# Altium schematic symbol library Potentiometer_Digital.SchLib: 61 symbols
Pins are listed as number, name and electrical type; pins without a type are passive.

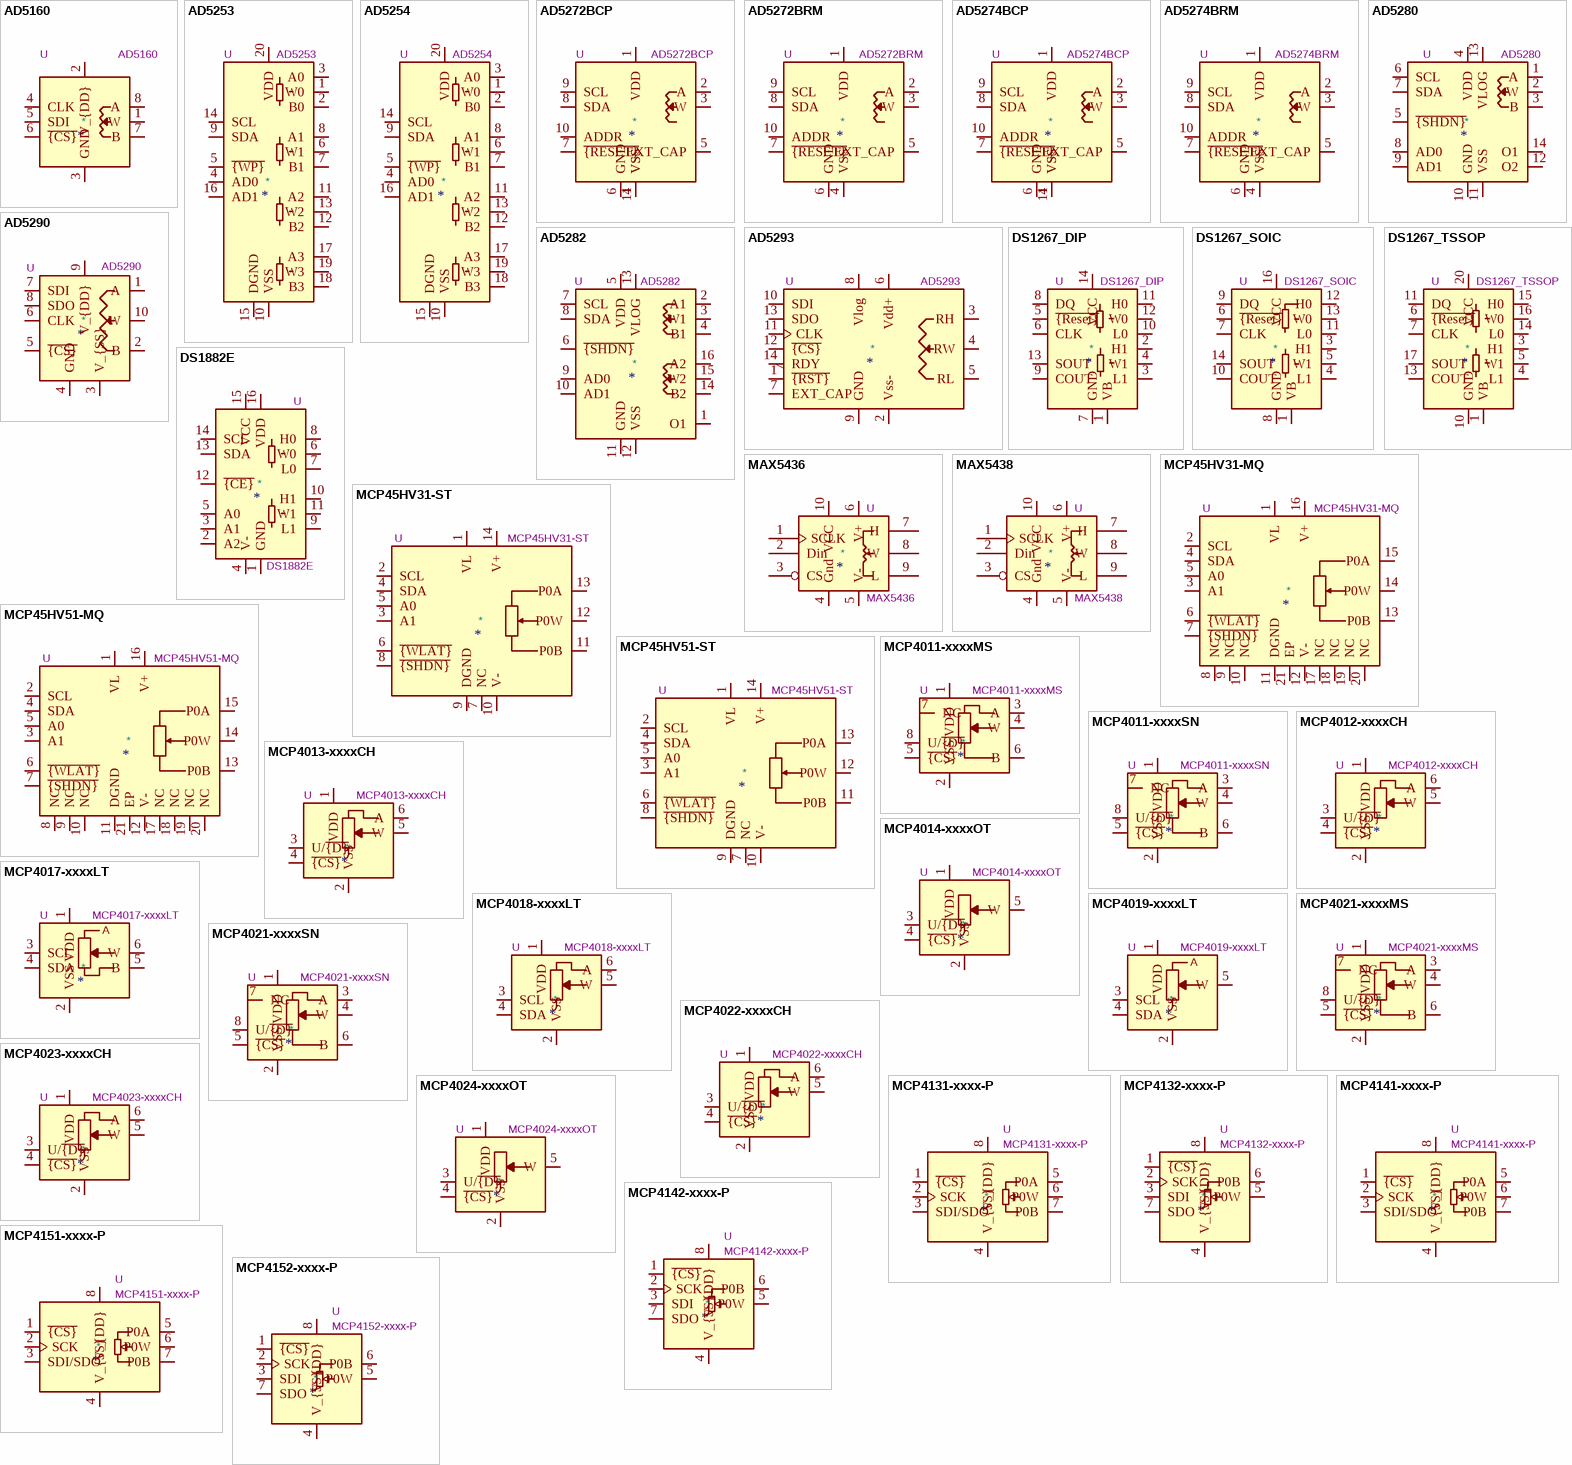
[diagram p0: symbols AD5160 to MCP4152-xxxx-P]

## AD5160
designator *  value AD5160  Reference: U
Digital potentiometer, 256 position, single output, SPI interface, SOT-23-8; ki_fp_filters: SOT?23*; Footprint: Package_TO_SOT_SMD:SOT-23-8; Datasheet: https://www.analog.com/media/en/technical-documentation/data-sheets/AD5160.pdf; Description_: Digital potentiometer, 256 position, single output, SPI interface, SOT-23-8; ki_keywords: digital potentiometer
pins: 1 W, 2 V_{DD}, 3 GND, 4 CLK, 5 SDI, 6 ~{{CS}}, 7 B, 8 A

## AD5253
designator *  value AD5253  Reference: U
Digital potentiometer, 64 position, 4 output, I2C interface, TSSOP-20; ki_fp_filters: TSSOP*4.4x6.5mm*P0.65mm*; Footprint: Package_SO:TSSOP-20_4.4x6.5mm_P0.65mm; Datasheet: https://www.analog.com/media/en/technical-documentation/data-sheets/AD5253_5254.pdf; Description_: Digital potentiometer, 64 position, 4 output, I2C interface, TSSOP-20; ki_keywords: digital potentiometer
pins: 1 W0, 2 B0, 3 A0, 4 AD0, 5 ~{{WP}}, 6 W1, 7 B1, 8 A1, 9 SDA, 10 VSS, 11 A2, 12 B2, 13 W2, 14 SCL, 15 DGND, 16 AD1, 17 A3, 18 B3, 19 W3, 20 VDD

## AD5254
designator *  value AD5254  Reference: U
Digital potentiometer, 256 position, 4 output, I2C interface, TSSOP-20; ki_fp_filters: TSSOP*4.4x6.5mm*P0.65mm*; Footprint: Package_SO:TSSOP-20_4.4x6.5mm_P0.65mm; Datasheet: https://www.analog.com/media/en/technical-documentation/data-sheets/AD5253_5254.pdf; Description_: Digital potentiometer, 256 position, 4 output, I2C interface, TSSOP-20; ki_keywords: digital potentiometer
pins: 1 W0, 2 B0, 3 A0, 4 AD0, 5 ~{{WP}}, 6 W1, 7 B1, 8 A1, 9 SDA, 10 VSS, 11 A2, 12 B2, 13 W2, 14 SCL, 15 DGND, 16 AD1, 17 A3, 18 B3, 19 W3, 20 VDD

## AD5272BCP
designator *  value AD5272BCP  Reference: U
Digital potentiometer, 1024 position, 1% Resistor Tolerance, I2C interface, LFCSP-10; ki_fp_filters: LFCSP*1EP*3x3mm*P0.5mm*; Footprint: Package_CSP:LFCSP-WD-10-1EP_3x3mm_P0.5mm_EP1.64x2.38mm; Datasheet: https://www.analog.com/media/en/technical-documentation/data-sheets/AD5272_5274.pdf; Description_: Digital potentiometer, 1024 position, 1% Resistor Tolerance, I2C interface, LFCSP-10; ki_keywords: digital potentiometer
pins: 1 VDD, 2 A, 3 W, 4 VSS, 5 EXT_CAP, 6 GND, 7 ~{{RESET}}, 8 SDA, 9 SCL, 10 ADDR, 11 VSS

## AD5272BRM
designator *  value AD5272BRM  Reference: U
Digital potentiometer, 1024 position, 1% Resistor Tolerance, I2C interface, MSOP-10; ki_fp_filters: MSOP*3x3mm*P0.5mm*; Footprint: Package_SO:MSOP-10_3x3mm_P0.5mm; Datasheet: https://www.analog.com/media/en/technical-documentation/data-sheets/AD5272_5274.pdf; Description_: Digital potentiometer, 1024 position, 1% Resistor Tolerance, I2C interface, MSOP-10; ki_keywords: digital potentiometer
pins: 1 VDD, 2 A, 3 W, 4 VSS, 5 EXT_CAP, 6 GND, 7 ~{{RESET}}, 8 SDA, 9 SCL, 10 ADDR

## AD5274BCP
designator *  value AD5274BCP  Reference: U
Digital potentiometer, 256 position, 1% Resistor Tolerance, I2C interface, LFCSP-10; ki_fp_filters: LFCSP*1EP*3x3mm*P0.5mm*; Footprint: Package_CSP:LFCSP-WD-10-1EP_3x3mm_P0.5mm_EP1.64x2.38mm; Datasheet: https://www.analog.com/media/en/technical-documentation/data-sheets/AD5272_5274.pdf; Description_: Digital potentiometer, 256 position, 1% Resistor Tolerance, I2C interface, LFCSP-10; ki_keywords: digital potentiometer
pins: 1 VDD, 2 A, 3 W, 4 VSS, 5 EXT_CAP, 6 GND, 7 ~{{RESET}}, 8 SDA, 9 SCL, 10 ADDR, 11 VSS

## AD5274BRM
designator *  value AD5274BRM  Reference: U
Digital potentiometer, 256 position, 1% Resistor Tolerance, I2C interface, MSOP-10; ki_fp_filters: MSOP*3x3mm*P0.5mm*; Footprint: Package_SO:MSOP-10_3x3mm_P0.5mm; Datasheet: https://www.analog.com/media/en/technical-documentation/data-sheets/AD5272_5274.pdf; Description_: Digital potentiometer, 256 position, 1% Resistor Tolerance, I2C interface, MSOP-10; ki_keywords: digital potentiometer
pins: 1 VDD, 2 A, 3 W, 4 VSS, 5 EXT_CAP, 6 GND, 7 ~{{RESET}}, 8 SDA, 9 SCL, 10 ADDR

## AD5280
designator *  value AD5280  Reference: U
Digital potentiometer, 256 position, single output, I2C interface; ki_fp_filters: TSSOP*4.4x5mm*P0.65mm*; Footprint: Package_SO:TSSOP-14_4.4x5mm_P0.65mm; Datasheet: https://www.analog.com/media/en/technical-documentation/data-sheets/AD5280_5282.pdf; Description_: Digital potentiometer, 256 position, single output, I2C interface; ki_keywords: digital potentiometer
pins: 1 A, 2 W, 3 B, 4 VDD, 5 ~{{SHDN}}, 6 SCL, 7 SDA, 8 AD0, 9 AD1, 10 GND, 11 VSS, 12 O2, 13 VLOG, 14 O1

## AD5282
designator *  value AD5282  Reference: U
Digital potentiometer, 256 position, dual output, I2C interface; ki_fp_filters: TSSOP*4.4x5mm*P0.65mm*; Footprint: Package_SO:TSSOP-16_4.4x5mm_P0.65mm; Datasheet: https://www.analog.com/media/en/technical-documentation/data-sheets/AD5280_5282.pdf; Description_: Digital potentiometer, 256 position, dual output, I2C interface; ki_keywords: digital potentiometer
pins: 1 O1, 2 A1, 3 W1, 4 B1, 5 VDD, 6 ~{{SHDN}}, 7 SCL, 8 SDA, 9 AD0, 10 AD1, 11 GND, 12 VSS, 13 VLOG, 14 B2, 15 W2, 16 A2

## AD5290
designator *  value AD5290  Reference: U
Digital Potentiometer, 256 steps, SPI interface, +30V/±15V supply, MSOP-10; ki_keywords: analog-devices; ki_fp_filters: MSOP*3x3mm*P0.5mm*; Footprint: Package_SO:MSOP-10_3x3mm_P0.5mm; Datasheet: https://www.analog.com/media/en/technical-documentation/data-sheets/AD5290.pdf; Description_: Digital Potentiometer, 256 steps, SPI interface, +30V/±15V supply, MSOP-10
pins: 1 A, 2 B, 3 V_{SS}, 4 GND, 5 ~{{CS}}, 6 CLK, 7 SDI, 8 SDO, 9 V_{DD}, 10 W

## AD5293
designator *  value AD5293  Reference: U
Digital potentiometer 1024 pos (SPI), TSSOP-14; ki_keywords: R POT; ki_fp_filters: TSSOP*4.4x5mm*P0.65mm*; Footprint: Package_SO:TSSOP-14_4.4x5mm_P0.65mm; Datasheet: https://www.analog.com/media/en/technical-documentation/data-sheets/AD5293.pdf; Description_: Digital potentiometer 1024 pos (SPI), TSSOP-14
pins: 1 ~{{RST}}, 2 Vss-, 3 RH, 4 RW, 5 RL, 6 Vdd+, 7 EXT_CAP, 8 Vlog, 9 GND, 10 SDI, 11 CLK, 12 ~{{CS}}, 13 SDO, 14 RDY

## DS1267_DIP
designator *  value DS1267_DIP  Reference: U
Dual Digital Potentiometer, Serial, 256 Steps, DIP-14; ki_keywords: Dual Digital Potentiometer Maxim; ki_fp_filters: DIP*W7.62mm*; Footprint: Package_DIP:DIP-14_W7.62mm; Datasheet: https://datasheets.maximintegrated.com/en/ds/DS1267.pdf; Description_: Dual Digital Potentiometer, Serial, 256 Steps, DIP-14
pins: 1 VB, 2 H1, 3 L1, 4 W1, 5 ~{{Reset}}, 6 CLK, 7 GND, 8 DQ, 9 COUT, 10 L0, 11 H0, 12 W0, 13 SOUT, 14 VCC

## DS1267_SOIC
designator *  value DS1267_SOIC  Reference: U
Dual Digital Potentiometer, Serial, 256 Steps, SOIC-16; ki_keywords: Dual Digital Potentiometer Maxim; ki_fp_filters: SOIC*3.9x9.9mm*1.27mm*; Footprint: Package_SO:SOIC-16_3.9x9.9mm_P1.27mm; Datasheet: https://datasheets.maximintegrated.com/en/ds/DS1267.pdf; Description_: Dual Digital Potentiometer, Serial, 256 Steps, SOIC-16
pins: 1 VB, 3 H1, 4 L1, 5 W1, 6 ~{{Reset}}, 7 CLK, 8 GND, 9 DQ, 10 COUT, 11 L0, 12 H0, 13 W0, 14 SOUT, 16 VCC

## DS1267_TSSOP
designator *  value DS1267_TSSOP  Reference: U
Dual Digital Potentiometer, Serial, 256 Steps, TSSOP-20; ki_keywords: Dual Digital Potentiometer Maxim; ki_fp_filters: TSSOP*4.4x6.5mm*0.65mm*; Footprint: Package_SO:TSSOP-20_4.4x6.5mm_P0.65mm; Datasheet: https://datasheets.maximintegrated.com/en/ds/DS1267.pdf; Description_: Dual Digital Potentiometer, Serial, 256 Steps, TSSOP-20
pins: 1 VB, 3 H1, 4 L1, 5 W1, 6 ~{{Reset}}, 7 CLK, 10 GND, 11 DQ, 13 COUT, 14 L0, 15 H0, 16 W0, 17 SOUT, 20 VCC

## DS1882E
designator *  value DS1882E  Reference: U
Dual Log Audio Digital Potentiometer, 64 positions, TSSOP-16; ki_fp_filters: TSSOP*4.4x5mm*P0.65mm*; Footprint: Package_SO:TSSOP-16_4.4x5mm_P0.65mm; Datasheet: https://datasheets.maximintegrated.com/en/ds/DS1882.pdf; Description_: Dual Log Audio Digital Potentiometer, 64 positions, TSSOP-16; ki_keywords: digital potentiometer
pins: 1 GND, 2 A2, 3 A1, 4 V-, 5 A0, 6 W0, 7 L0, 8 H0, 9 L1, 10 H1, 11 W1, 12 ~{{CE}}, 13 SDA, 14 SCL, 15 VCC, 16 VDD

## MAX5436
designator *  value MAX5436  Reference: U
Low-Drift Digital Potentiometer; ki_keywords: digital potentiometer resistor variable; Datasheet: https://datasheets.maximintegrated.com/en/ds/MAX5436-MAX5439.pdf; Description_: Low-Drift Digital Potentiometer
pins: 1 SCLK, 2 Din, 3 CS, 4 Gnd, 5 V-, 6 V+, 7 H, 8 W, 9 L, 10 VCC

## MAX5438
designator *  value MAX5438  Reference: U
Low-Drift Digital Potentiometer; ki_keywords: digital potentiometer resistor variable; Datasheet: https://datasheets.maximintegrated.com/en/ds/MAX5436-MAX5439.pdf; Description_: Low-Drift Digital Potentiometer
pins: 1 SCLK, 2 Din, 3 CS, 4 Gnd, 5 V-, 6 V+, 7 H, 8 W, 9 L, 10 VCC

## MCP45HV31-MQ
designator *  value MCP45HV31-MQ  Reference: U
7/8-bit single +36V (±18V) digital pot, I2C serial interface, volatile memory, QFN-20; ki_keywords: I2C Potentiometer pot digital; ki_fp_filters: QFN*5x5mm*P0.65mm*; Footprint: Package_DFN_QFN:QFN-20-1EP_5x5mm_P0.65mm_EP3.35x3.35mm; Datasheet: http://ww1.microchip.com/downloads/en/DeviceDoc/20005304A.pdf; Description_: 7/8-bit single +36V (±18V) digital pot, I2C serial interface, volatile memory, QFN-20
pins: 1 VL, 2 SCL, 3 A1, 4 SDA, 5 A0, 6 ~{{WLAT}}, 7 ~{{SHDN}}, 8 NC, 9 NC, 10 NC, 11 DGND, 12 V-, 13 P0B, 14 P0W, 15 P0A, 16 V+, 17 NC, 18 NC, 19 NC, 20 NC, 21 EP

## MCP45HV31-ST
designator *  value MCP45HV31-ST  Reference: U
7/8-bit single +36V (±18V) digital pot, I2C serial interface, volatile memory, TSSOP-14; ki_keywords: I2C Potentiometer pot digital; ki_fp_filters: TSSOP*4.4x5mm*P0.65mm*; Footprint: Package_SO:TSSOP-14_4.4x5mm_P0.65mm; Datasheet: http://ww1.microchip.com/downloads/en/DeviceDoc/20005304A.pdf; Description_: 7/8-bit single +36V (±18V) digital pot, I2C serial interface, volatile memory, TSSOP-14
pins: 1 VL, 2 SCL, 3 A1, 4 SDA, 5 A0, 6 ~{{WLAT}}, 7 NC, 8 ~{{SHDN}}, 9 DGND, 10 V-, 11 P0B, 12 P0W, 13 P0A, 14 V+

## MCP45HV51-MQ
designator *  value MCP45HV51-MQ  Reference: U
7/8-bit single +36V (±18V) digital pot, I2C serial interface, volatile memory, QFN-20; ki_keywords: I2C Potentiometer pot digital; ki_fp_filters: QFN*5x5mm*P0.65mm*; Footprint: Package_DFN_QFN:QFN-20-1EP_5x5mm_P0.65mm_EP3.35x3.35mm; Datasheet: http://ww1.microchip.com/downloads/en/DeviceDoc/20005304A.pdf; Description_: 7/8-bit single +36V (±18V) digital pot, I2C serial interface, volatile memory, QFN-20
pins: 1 VL, 2 SCL, 3 A1, 4 SDA, 5 A0, 6 ~{{WLAT}}, 7 ~{{SHDN}}, 8 NC, 9 NC, 10 NC, 11 DGND, 12 V-, 13 P0B, 14 P0W, 15 P0A, 16 V+, 17 NC, 18 NC, 19 NC, 20 NC, 21 EP

## MCP45HV51-ST
designator *  value MCP45HV51-ST  Reference: U
7/8-bit single +36V (±18V) digital pot, I2C serial interface, volatile memory, TSSOP-14; ki_keywords: I2C Potentiometer pot digital; ki_fp_filters: TSSOP*4.4x5mm*P0.65mm*; Footprint: Package_SO:TSSOP-14_4.4x5mm_P0.65mm; Datasheet: http://ww1.microchip.com/downloads/en/DeviceDoc/20005304A.pdf; Description_: 7/8-bit single +36V (±18V) digital pot, I2C serial interface, volatile memory, TSSOP-14
pins: 1 VL, 2 SCL, 3 A1, 4 SDA, 5 A0, 6 ~{{WLAT}}, 7 NC, 8 ~{{SHDN}}, 9 DGND, 10 V-, 11 P0B, 12 P0W, 13 P0A, 14 V+

## MCP4011-xxxxMS
designator *  value MCP4011-xxxxMS  Reference: U
Low-Cost 64-Step Volatile Digital Potentiometer; ki_keywords: Digital Pot Potentiometer Up Down; ki_fp_filters: MSOP*3x3mm*P0.65mm*; Footprint: Package_SO:MSOP-8_3x3mm_P0.65mm; Datasheet: http://ww1.microchip.com/downloads/en/DeviceDoc/21978c.pdf, MSOP-8; Description_: Low-Cost 64-Step Volatile Digital Potentiometer
pins: 1 VDD, 2 VSS, 3 A, 4 W, 5 ~{{CS}}, 6 B, 7 NC, 8 U/~{{D}}

## MCP4011-xxxxSN
designator *  value MCP4011-xxxxSN  Reference: U
Low-Cost 64-Step Volatile Digital Potentiometer; ki_keywords: Digital Pot Potentiometer Up Down; ki_fp_filters: SOIC*3.9x4.9mm*P1.27mm*; Footprint: Package_SO:SOIC-8_3.9x4.9mm_P1.27mm; Datasheet: http://ww1.microchip.com/downloads/en/DeviceDoc/21978c.pdf, SOIC-8; Description_: Low-Cost 64-Step Volatile Digital Potentiometer
pins: 1 VDD, 2 VSS, 3 A, 4 W, 5 ~{{CS}}, 6 B, 7 NC, 8 U/~{{D}}

## MCP4012-xxxxCH
designator *  value MCP4012-xxxxCH  Reference: U
Low-Cost 64-Step Volatile Digital Potentiometer; ki_keywords: Digital Pot Potentiometer Up Down; ki_fp_filters: SOT?23*; Footprint: Package_TO_SOT_SMD:SOT-23-6; Datasheet: http://ww1.microchip.com/downloads/en/DeviceDoc/21978c.pdf, SOT-23-6; Description_: Low-Cost 64-Step Volatile Digital Potentiometer
pins: 1 VDD, 2 VSS, 3 U/~{{D}}, 4 ~{{CS}}, 5 W, 6 A

## MCP4013-xxxxCH
designator *  value MCP4013-xxxxCH  Reference: U
Low-Cost 64-Step Volatile Digital Potentiometer; ki_keywords: Digital Pot Potentiometer Up Down; ki_fp_filters: SOT?23*; Footprint: Package_TO_SOT_SMD:SOT-23-6; Datasheet: http://ww1.microchip.com/downloads/en/DeviceDoc/21978c.pdf, SOT-23-6; Description_: Low-Cost 64-Step Volatile Digital Potentiometer
pins: 1 VDD, 2 VSS, 3 U/~{{D}}, 4 ~{{CS}}, 5 W, 6 A

## MCP4014-xxxxOT
designator *  value MCP4014-xxxxOT  Reference: U
Low-Cost 64-Step Volatile Digital Potentiometer; ki_keywords: Digital Pot Potentiometer Up Down; ki_fp_filters: SOT?23*; Footprint: Package_TO_SOT_SMD:SOT-23-5; Datasheet: http://ww1.microchip.com/downloads/en/DeviceDoc/21978c.pdf, SOT-23-5; Description_: Low-Cost 64-Step Volatile Digital Potentiometer
pins: 1 VDD, 2 VSS, 3 U/~{{D}}, 4 ~{{CS}}, 5 W

## MCP4017-xxxxLT
designator *  value MCP4017-xxxxLT  Reference: U
Low-Cost 128-Step Volatile I2C Digital Potentiometer, SC-70-6; ki_keywords: TWI pot rheostat; ki_fp_filters: *SC?70*; Footprint: Package_TO_SOT_SMD:SOT-363_SC-70-6; Datasheet: http://ww1.microchip.com/downloads/en/DeviceDoc/22147a.pdf; Description_: Low-Cost 128-Step Volatile I2C Digital Potentiometer, SC-70-6
pins: 1 VDD, 2 VSS, 3 SCL, 4 SDA, 5 B, 6 W
text: A

## MCP4018-xxxxLT
designator *  value MCP4018-xxxxLT  Reference: U
Low-Cost 128-Step Volatile I2C Digital Potentiometer, SC-70-6; ki_keywords: TWI pot; ki_fp_filters: *SC?70*; Footprint: Package_TO_SOT_SMD:SOT-363_SC-70-6; Datasheet: http://ww1.microchip.com/downloads/en/DeviceDoc/22147a.pdf; Description_: Low-Cost 128-Step Volatile I2C Digital Potentiometer, SC-70-6
pins: 1 VDD, 2 VSS, 3 SCL, 4 SDA, 5 W, 6 A

## MCP4019-xxxxLT
designator *  value MCP4019-xxxxLT  Reference: U
Low-Cost 128-Step Volatile I2C Digital Potentiometer, SC-70-5; ki_keywords: TWI pot rheostat; ki_fp_filters: *SC?70*; Footprint: Package_TO_SOT_SMD:SOT-353_SC-70-5; Datasheet: http://ww1.microchip.com/downloads/en/DeviceDoc/22147a.pdf; Description_: Low-Cost 128-Step Volatile I2C Digital Potentiometer, SC-70-5
pins: 1 VDD, 2 VSS, 3 SCL, 4 SDA, 5 W
text: A

## MCP4021-xxxxMS
designator *  value MCP4021-xxxxMS  Reference: U
Low-Cost 64-Step Digital Potentiometer with WiperLock™ Technology, MSOP-8; ki_keywords: Digital Pot Potentiometer Up Down; ki_fp_filters: MSOP*3x3mm*P0.65mm*; Footprint: Package_SO:MSOP-8_3x3mm_P0.65mm; Datasheet: http://ww1.microchip.com/downloads/en/DeviceDoc/21945e.pdf; Description_: Low-Cost 64-Step Digital Potentiometer with WiperLock™ Technology, MSOP-8
pins: 1 VDD, 2 VSS, 3 A, 4 W, 5 ~{{CS}}, 6 B, 7 NC, 8 U/~{{D}}

## MCP4021-xxxxSN
designator *  value MCP4021-xxxxSN  Reference: U
Low-Cost 64-Step Digital Potentiometer with WiperLock™ Technology, SOIC-8; ki_keywords: Digital Pot Potentiometer Up Down; ki_fp_filters: SOIC*3.9x4.9mm*P1.27mm*; Footprint: Package_SO:SOIC-8_3.9x4.9mm_P1.27mm; Datasheet: http://ww1.microchip.com/downloads/en/DeviceDoc/21945e.pdf; Description_: Low-Cost 64-Step Digital Potentiometer with WiperLock™ Technology, SOIC-8
pins: 1 VDD, 2 VSS, 3 A, 4 W, 5 ~{{CS}}, 6 B, 7 NC, 8 U/~{{D}}

## MCP4022-xxxxCH
designator *  value MCP4022-xxxxCH  Reference: U
Low-Cost 64-Step Digital Potentiometer with WiperLock™ Technology, SOT-23-6; ki_keywords: Digital Pot Potentiometer Up Down; ki_fp_filters: SOT?23*; Footprint: Package_TO_SOT_SMD:SOT-23-6; Datasheet: http://ww1.microchip.com/downloads/en/DeviceDoc/21945e.pdf; Description_: Low-Cost 64-Step Digital Potentiometer with WiperLock™ Technology, SOT-23-6
pins: 1 VDD, 2 VSS, 3 U/~{{D}}, 4 ~{{CS}}, 5 W, 6 A

## MCP4023-xxxxCH
designator *  value MCP4023-xxxxCH  Reference: U
Low-Cost 64-Step Digital Potentiometer with WiperLock™ Technology, SOT-23-6; ki_keywords: Digital Pot Potentiometer Up Down; ki_fp_filters: SOT?23*; Footprint: Package_TO_SOT_SMD:SOT-23-6; Datasheet: http://ww1.microchip.com/downloads/en/DeviceDoc/21945e.pdf; Description_: Low-Cost 64-Step Digital Potentiometer with WiperLock™ Technology, SOT-23-6
pins: 1 VDD, 2 VSS, 3 U/~{{D}}, 4 ~{{CS}}, 5 W, 6 A

## MCP4024-xxxxOT
designator *  value MCP4024-xxxxOT  Reference: U
Low-Cost 64-Step Digital Potentiometer with WiperLock™ Technology, SOT-23-5; ki_keywords: Digital Pot Potentiometer Up Down; ki_fp_filters: SOT?23*; Footprint: Package_TO_SOT_SMD:SOT-23-5; Datasheet: http://ww1.microchip.com/downloads/en/DeviceDoc/21945e.pdf; Description_: Low-Cost 64-Step Digital Potentiometer with WiperLock™ Technology, SOT-23-5
pins: 1 VDD, 2 VSS, 3 U/~{{D}}, 4 ~{{CS}}, 5 W

## MCP4131-xxxx-P
designator *  value MCP4131-xxxx-P  Reference: U
Single Digital Potentiometer, SPI interface, 129 taps, 5/10/50/100 kohm, volatile memory; ki_keywords: digipot RAM 7-bit 7bit; ki_fp_filters: DIP?8*W7.62mm*; Footprint: Package_DIP:DIP-8_W7.62mm; Datasheet: https://ww1.microchip.com/downloads/aemDocuments/documents/OTH/ProductDocuments/DataSheets/22060b.pdf; Description_: Single Digital Potentiometer, SPI interface, 129 taps, 5/10/50/100 kohm, volatile memory
pins: 1 ~{{CS}}, 2 SCK, 3 SDI/SDO, 4 V_{SS}, 5 P0A, 6 P0W, 7 P0B, 8 V_{DD}

## MCP4132-xxxx-P
designator *  value MCP4132-xxxx-P  Reference: U
Single Digital Rheostat, SPI interface, 129 taps, 5/10/50/100 kohm, volatile memory; ki_keywords: potentiometer digipot RAM 7-bit 7bit; ki_fp_filters: DIP?8*W7.62mm*; Footprint: Package_DIP:DIP-8_W7.62mm; Datasheet: https://ww1.microchip.com/downloads/aemDocuments/documents/OTH/ProductDocuments/DataSheets/22060b.pdf; Description_: Single Digital Rheostat, SPI interface, 129 taps, 5/10/50/100 kohm, volatile memory
pins: 1 ~{{CS}}, 2 SCK, 3 SDI, 4 V_{SS}, 5 P0W, 6 P0B, 7 SDO, 8 V_{DD}

## MCP4141-xxxx-P
designator *  value MCP4141-xxxx-P  Reference: U
Single Digital Potentiometer, SPI interface, 129 taps, 5/10/50/100 kohm, non-volatile memory; ki_keywords: digipot EE 7-bit 7bit; ki_fp_filters: DIP?8*W7.62mm*; Footprint: Package_DIP:DIP-8_W7.62mm; Datasheet: https://ww1.microchip.com/downloads/aemDocuments/documents/OTH/ProductDocuments/DataSheets/22059b.pdf; Description_: Single Digital Potentiometer, SPI interface, 129 taps, 5/10/50/100 kohm, non-volatile memory
pins: 1 ~{{CS}}, 2 SCK, 3 SDI/SDO, 4 V_{SS}, 5 P0A, 6 P0W, 7 P0B, 8 V_{DD}

## MCP4142-xxxx-P
designator *  value MCP4142-xxxx-P  Reference: U
Single Digital Rheostat, SPI interface, 129 taps, 5/10/50/100 kohm, non-volatile memory; ki_keywords: potentiometer digipot EE 7-bit 7bit; ki_fp_filters: DIP?8*W7.62mm*; Footprint: Package_DIP:DIP-8_W7.62mm; Datasheet: https://ww1.microchip.com/downloads/aemDocuments/documents/OTH/ProductDocuments/DataSheets/22059b.pdf; Description_: Single Digital Rheostat, SPI interface, 129 taps, 5/10/50/100 kohm, non-volatile memory
pins: 1 ~{{CS}}, 2 SCK, 3 SDI, 4 V_{SS}, 5 P0W, 6 P0B, 7 SDO, 8 V_{DD}

## MCP4151-xxxx-P
designator *  value MCP4151-xxxx-P  Reference: U
Single Digital Potentiometer, SPI interface, 257 taps, 5/10/50/100 kohm, volatile memory; ki_keywords: digipot RAM 8-bit 8bit; ki_fp_filters: DIP?8*W7.62mm*; Footprint: Package_DIP:DIP-8_W7.62mm; Datasheet: https://ww1.microchip.com/downloads/aemDocuments/documents/OTH/ProductDocuments/DataSheets/22060b.pdf; Description_: Single Digital Potentiometer, SPI interface, 257 taps, 5/10/50/100 kohm, volatile memory
pins: 1 ~{{CS}}, 2 SCK, 3 SDI/SDO, 4 V_{SS}, 5 P0A, 6 P0W, 7 P0B, 8 V_{DD}

## MCP4152-xxxx-P
designator *  value MCP4152-xxxx-P  Reference: U
Single Digital Rheostat, SPI interface, 257 taps, 5/10/50/100 kohm, volatile memory; ki_keywords: potentiometer digipot RAM 8-bit 8bit; ki_fp_filters: DIP?8*W7.62mm*; Footprint: Package_DIP:DIP-8_W7.62mm; Datasheet: https://ww1.microchip.com/downloads/aemDocuments/documents/OTH/ProductDocuments/DataSheets/22060b.pdf; Description_: Single Digital Rheostat, SPI interface, 257 taps, 5/10/50/100 kohm, volatile memory
pins: 1 ~{{CS}}, 2 SCK, 3 SDI, 4 V_{SS}, 5 P0W, 6 P0B, 7 SDO, 8 V_{DD}

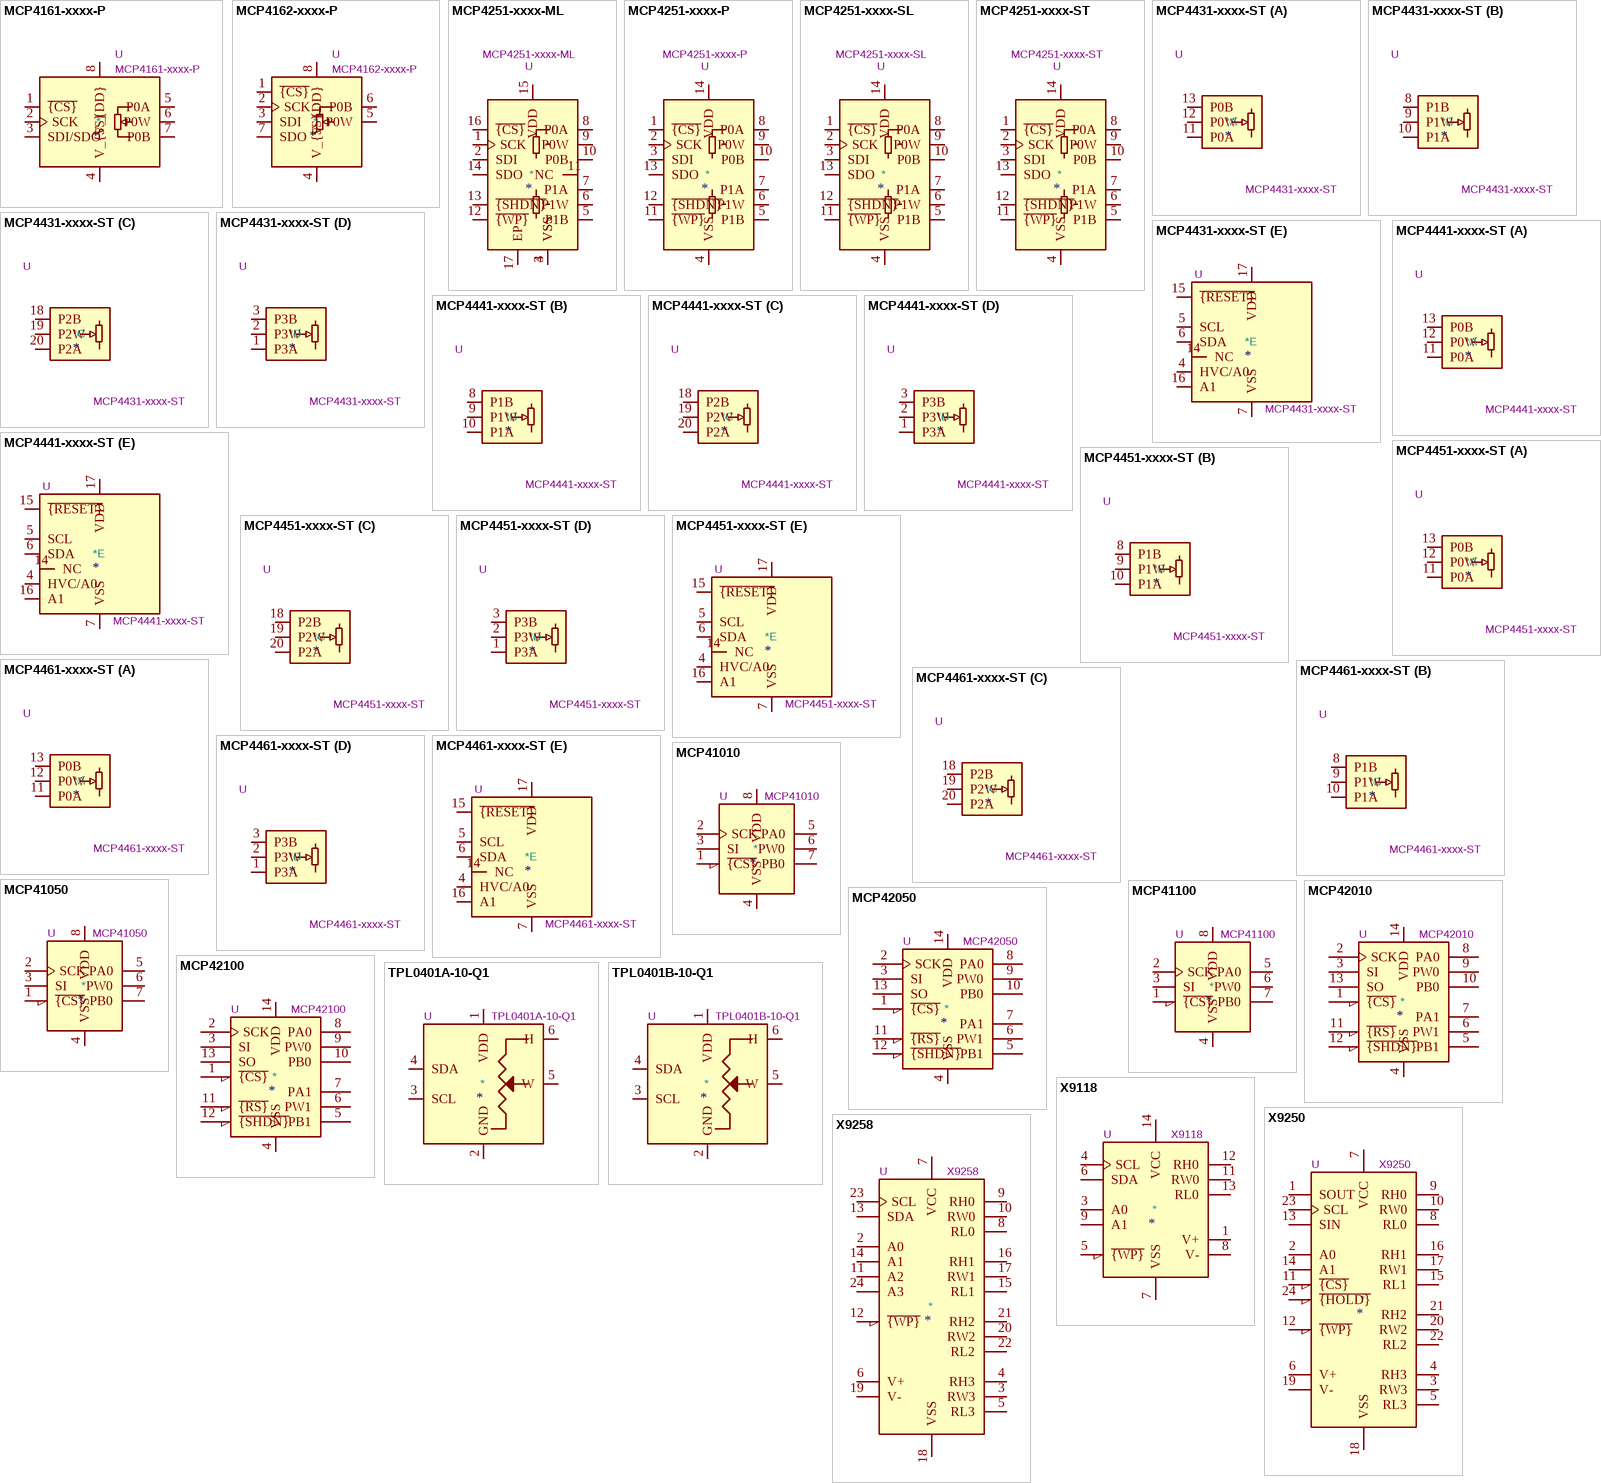
[diagram p1: symbols MCP4161-xxxx-P to X9258]

## MCP4161-xxxx-P
designator *  value MCP4161-xxxx-P  Reference: U
Single Digital Potentiometer, SPI interface, 257 taps, 5/10/50/100 kohm, non-volatile memory; ki_keywords: digipot EE 8-bit 8bit; ki_fp_filters: DIP?8*W7.62mm*; Footprint: Package_DIP:DIP-8_W7.62mm; Datasheet: https://ww1.microchip.com/downloads/aemDocuments/documents/OTH/ProductDocuments/DataSheets/22059b.pdf; Description_: Single Digital Potentiometer, SPI interface, 257 taps, 5/10/50/100 kohm, non-volatile memory
pins: 1 ~{{CS}}, 2 SCK, 3 SDI/SDO, 4 V_{SS}, 5 P0A, 6 P0W, 7 P0B, 8 V_{DD}

## MCP4162-xxxx-P
designator *  value MCP4162-xxxx-P  Reference: U
Single Digital Rheostat, SPI interface, 257 taps, 5/10/50/100 kohm, non-volatile memory; ki_keywords: potentiometer digipot EE 8-bit 8bit; ki_fp_filters: DIP?8*W7.62mm*; Footprint: Package_DIP:DIP-8_W7.62mm; Datasheet: https://ww1.microchip.com/downloads/aemDocuments/documents/OTH/ProductDocuments/DataSheets/22059b.pdf; Description_: Single Digital Rheostat, SPI interface, 257 taps, 5/10/50/100 kohm, non-volatile memory
pins: 1 ~{{CS}}, 2 SCK, 3 SDI, 4 V_{SS}, 5 P0W, 6 P0B, 7 SDO, 8 V_{DD}

## MCP4251-xxxx-ML
designator *  value MCP4251-xxxx-ML  Reference: U
Dual 8 Bit Digital Pot, SPI, Volatile Memory, QFN-16; ki_keywords: Digital Pot Potentiometer; ki_fp_filters: QFN*4x4mm*P0.65mm*; Footprint: Package_DFN_QFN:QFN-16-1EP_4x4mm_P0.65mm_EP2.5x2.5mm; Datasheet: http://ww1.microchip.com/downloads/en/devicedoc/22060b.pdf; Description_: Dual 8 Bit Digital Pot, SPI, Volatile Memory, QFN-16
pins: 1 SCK, 2 SDI, 3 VSS, 4 VSS, 5 P1B, 6 P1W, 7 P1A, 8 P0A, 9 P0W, 10 P0B, 11 NC, 12 ~{{WP}}, 13 ~{{SHDN}}, 14 SDO, 15 VDD, 16 ~{{CS}}, 17 EP

## MCP4251-xxxx-P
designator *  value MCP4251-xxxx-P  Reference: U
Dual 8 Bit Digital Pot, SPI, Volatile Memory, PDIP-14; ki_keywords: Digital Pot Potentiometer; ki_fp_filters: DIP*W7.62mm*; Footprint: Package_DIP:DIP-14_W7.62mm; Datasheet: http://ww1.microchip.com/downloads/en/devicedoc/22060b.pdf; Description_: Dual 8 Bit Digital Pot, SPI, Volatile Memory, PDIP-14
pins: 1 ~{{CS}}, 2 SCK, 3 SDI, 4 VSS, 5 P1B, 6 P1W, 7 P1A, 8 P0A, 9 P0W, 10 P0B, 11 ~{{WP}}, 12 ~{{SHDN}}, 13 SDO, 14 VDD

## MCP4251-xxxx-SL
designator *  value MCP4251-xxxx-SL  Reference: U
Dual 8 Bit Digital Pot, SPI, Volatile Memory, SOIC-14; ki_keywords: Digital Pot Potentiometer; ki_fp_filters: SOIC*3.9x8.7mm*P1.27mm*; Footprint: Package_SO:SOIC-14_3.9x8.7mm_P1.27mm; Datasheet: http://ww1.microchip.com/downloads/en/devicedoc/22060b.pdf; Description_: Dual 8 Bit Digital Pot, SPI, Volatile Memory, SOIC-14
pins: 1 ~{{CS}}, 2 SCK, 3 SDI, 4 VSS, 5 P1B, 6 P1W, 7 P1A, 8 P0A, 9 P0W, 10 P0B, 11 ~{{WP}}, 12 ~{{SHDN}}, 13 SDO, 14 VDD

## MCP4251-xxxx-ST
designator *  value MCP4251-xxxx-ST  Reference: U
Dual 8 Bit Digital Pot, SPI, Volatile Memory, TSSOP-14; ki_keywords: Digital Pot Potentiometer; ki_fp_filters: TSSOP*4.4x5mm*P0.65mm*; Footprint: Package_SO:TSSOP-14_4.4x5mm_P0.65mm; Datasheet: http://ww1.microchip.com/downloads/en/devicedoc/22060b.pdf; Description_: Dual 8 Bit Digital Pot, SPI, Volatile Memory, TSSOP-14
pins: 1 ~{{CS}}, 2 SCK, 3 SDI, 4 VSS, 5 P1B, 6 P1W, 7 P1A, 8 P0A, 9 P0W, 10 P0B, 11 ~{{WP}}, 12 ~{{SHDN}}, 13 SDO, 14 VDD

## MCP4431-xxxx-ST
designator *  value MCP4431-xxxx-ST  Reference: U
Quad 7 Bit Digital Potentiometer, I²C, Volatile Memory, TSSOP-20; ki_keywords: Digital Pot Potentiometer DigiPot; ki_fp_filters: TSSOP*4.4x6.5mm*P0.65mm*; Footprint: Package_SO:TSSOP-20_4.4x6.5mm_P0.65mm; Datasheet: https://ww1.microchip.com/downloads/en/DeviceDoc/22267A_MCP4431.pdf; Description_: Quad 7 Bit Digital Potentiometer, I²C, Volatile Memory, TSSOP-20
part A pins: 11 P0A, 12 P0W, 13 P0B
part B pins: 8 P1B, 9 P1W, 10 P1A
part C pins: 18 P2B, 19 P2W, 20 P2A
part D pins: 1 P3A, 2 P3W, 3 P3B
part E pins: 4 HVC/A0, 5 SCL, 6 SDA, 7 VSS, 14 NC, 15 ~{{RESET}}, 16 A1, 17 VDD

## MCP4441-xxxx-ST
designator *  value MCP4441-xxxx-ST  Reference: U
Quad 7 Bit Digital Potentiometer, I²C, Nonvolatile Memory, TSSOP-20; ki_keywords: Digital Pot Potentiometer DigiPot; ki_fp_filters: TSSOP*4.4x6.5mm*P0.65mm*; Footprint: Package_SO:TSSOP-20_4.4x6.5mm_P0.65mm; Datasheet: https://ww1.microchip.com/downloads/en/DeviceDoc/22267A_MCP4431.pdf; Description_: Quad 7 Bit Digital Potentiometer, I²C, Nonvolatile Memory, TSSOP-20
part A pins: 11 P0A, 12 P0W, 13 P0B
part B pins: 8 P1B, 9 P1W, 10 P1A
part C pins: 18 P2B, 19 P2W, 20 P2A
part D pins: 1 P3A, 2 P3W, 3 P3B
part E pins: 4 HVC/A0, 5 SCL, 6 SDA, 7 VSS, 14 NC, 15 ~{{RESET}}, 16 A1, 17 VDD

## MCP4451-xxxx-ST
designator *  value MCP4451-xxxx-ST  Reference: U
Quad 8 Bit Digital Potentiometer, I²C, Volatile Memory, TSSOP-20; ki_keywords: Digital Pot Potentiometer DigiPot; ki_fp_filters: TSSOP*4.4x6.5mm*P0.65mm*; Footprint: Package_SO:TSSOP-20_4.4x6.5mm_P0.65mm; Datasheet: https://ww1.microchip.com/downloads/en/DeviceDoc/22267A_MCP4431.pdf; Description_: Quad 8 Bit Digital Potentiometer, I²C, Volatile Memory, TSSOP-20
part A pins: 11 P0A, 12 P0W, 13 P0B
part B pins: 8 P1B, 9 P1W, 10 P1A
part C pins: 18 P2B, 19 P2W, 20 P2A
part D pins: 1 P3A, 2 P3W, 3 P3B
part E pins: 4 HVC/A0, 5 SCL, 6 SDA, 7 VSS, 14 NC, 15 ~{{RESET}}, 16 A1, 17 VDD

## MCP4461-xxxx-ST
designator *  value MCP4461-xxxx-ST  Reference: U
Quad 8 Bit Digital Potentiometer, I²C, Nonvolatile Memory, TSSOP-20; ki_keywords: Digital Pot Potentiometer DigiPot; ki_fp_filters: TSSOP*4.4x6.5mm*P0.65mm*; Footprint: Package_SO:TSSOP-20_4.4x6.5mm_P0.65mm; Datasheet: https://ww1.microchip.com/downloads/en/DeviceDoc/22267A_MCP4431.pdf; Description_: Quad 8 Bit Digital Potentiometer, I²C, Nonvolatile Memory, TSSOP-20
part A pins: 11 P0A, 12 P0W, 13 P0B
part B pins: 8 P1B, 9 P1W, 10 P1A
part C pins: 18 P2B, 19 P2W, 20 P2A
part D pins: 1 P3A, 2 P3W, 3 P3B
part E pins: 4 HVC/A0, 5 SCL, 6 SDA, 7 VSS, 14 NC, 15 ~{{RESET}}, 16 A1, 17 VDD

## MCP41010
designator *  value MCP41010  Reference: U
Single Digital Potentiometer, SPI interface, 256 taps, 10 kohm; ki_keywords: R POT; ki_fp_filters: DIP*W7.62mm* SOIC*P1.27mm*; Datasheet: http://ww1.microchip.com/downloads/en/DeviceDoc/11195c.pdf; Description_: Single Digital Potentiometer, SPI interface, 256 taps, 10 kohm
pins: 1 ~{{CS}}, 2 SCK, 3 SI, 4 VSS, 5 PA0, 6 PW0, 7 PB0, 8 VDD

## MCP41050
designator *  value MCP41050  Reference: U
Single Digital Potentiometer, SPI interface, 256 taps, 50 kohm; ki_keywords: R POT; ki_fp_filters: DIP*W7.62mm* SOIC*P1.27mm*; Datasheet: http://ww1.microchip.com/downloads/en/DeviceDoc/11195c.pdf; Description_: Single Digital Potentiometer, SPI interface, 256 taps, 50 kohm
pins: 1 ~{{CS}}, 2 SCK, 3 SI, 4 VSS, 5 PA0, 6 PW0, 7 PB0, 8 VDD

## MCP41100
designator *  value MCP41100  Reference: U
Single Digital Potentiometer, SPI interface, 256 taps, 100 kohm; ki_keywords: R POT; ki_fp_filters: DIP*W7.62mm* SOIC*P1.27mm*; Datasheet: http://ww1.microchip.com/downloads/en/DeviceDoc/11195c.pdf; Description_: Single Digital Potentiometer, SPI interface, 256 taps, 100 kohm
pins: 1 ~{{CS}}, 2 SCK, 3 SI, 4 VSS, 5 PA0, 6 PW0, 7 PB0, 8 VDD

## MCP42010
designator *  value MCP42010  Reference: U
Dual Digital Potentiometer, SPI interface, 256 taps, 10 kohm; ki_keywords: R POT; ki_fp_filters: DIP*W7.62mm* SOIC*3.9x8.7mm*P1.27mm* TSSOP*4.4x5mm*P0.65mm*; Datasheet: http://ww1.microchip.com/downloads/en/DeviceDoc/11195c.pdf; Description_: Dual Digital Potentiometer, SPI interface, 256 taps, 10 kohm
pins: 1 ~{{CS}}, 2 SCK, 3 SI, 4 VSS, 5 PB1, 6 PW1, 7 PA1, 8 PA0, 9 PW0, 10 PB0, 11 ~{{RS}}, 12 ~{{SHDN}}, 13 SO, 14 VDD

## MCP42050
designator *  value MCP42050  Reference: U
Dual Digital Potentiometer, SPI interface, 256 taps, 50 kohm; ki_keywords: R POT; ki_fp_filters: DIP*W7.62mm* SOIC*3.9x8.7mm*P1.27mm* TSSOP*4.4x5mm*P0.65mm*; Datasheet: http://ww1.microchip.com/downloads/en/DeviceDoc/11195c.pdf; Description_: Dual Digital Potentiometer, SPI interface, 256 taps, 50 kohm
pins: 1 ~{{CS}}, 2 SCK, 3 SI, 4 VSS, 5 PB1, 6 PW1, 7 PA1, 8 PA0, 9 PW0, 10 PB0, 11 ~{{RS}}, 12 ~{{SHDN}}, 13 SO, 14 VDD

## MCP42100
designator *  value MCP42100  Reference: U
Dual Digital Potentiometer, SPI interface, 256 taps, 100 kohm; ki_keywords: R POT; ki_fp_filters: DIP*W7.62mm* SOIC*3.9x8.7mm*P1.27mm* TSSOP*4.4x5mm*P0.65mm*; Datasheet: http://ww1.microchip.com/downloads/en/DeviceDoc/11195c.pdf; Description_: Dual Digital Potentiometer, SPI interface, 256 taps, 100 kohm
pins: 1 ~{{CS}}, 2 SCK, 3 SI, 4 VSS, 5 PB1, 6 PW1, 7 PA1, 8 PA0, 9 PW0, 10 PB0, 11 ~{{RS}}, 12 ~{{SHDN}}, 13 SO, 14 VDD

## TPL0401A-10-Q1
designator *  value TPL0401A-10-Q1  Reference: U
128-TAPS Single-Channel Digital Potentiometer, I2C Interface, SC-70-6; ki_keywords: Digital Pot Potentiometer I2C; ki_fp_filters: Texas*R*PDSO*G*; Footprint: Package_TO_SOT_SMD:Texas_R-PDSO-G6; Datasheet: http://www.ti.com/lit/ds/symlink/tpl0401a-10-q1.pdf; Description_: 128-TAPS Single-Channel Digital Potentiometer, I2C Interface, SC-70-6
pins: 1 VDD, 2 GND, 3 SCL, 4 SDA, 5 W, 6 H

## TPL0401B-10-Q1
designator *  value TPL0401B-10-Q1  Reference: U
128-TAPS Single-Channel Digital Potentiometer, I2C Interface, SC-70-6; ki_keywords: Digital Pot Potentiometer I2C; ki_fp_filters: Texas*R*PDSO*G*; Footprint: Package_TO_SOT_SMD:Texas_R-PDSO-G6; Datasheet: http://www.ti.com/lit/ds/symlink/tpl0401a-10-q1.pdf; Description_: 128-TAPS Single-Channel Digital Potentiometer, I2C Interface, SC-70-6
pins: 1 VDD, 2 GND, 3 SCL, 4 SDA, 5 W, 6 H

## X9118
designator *  value X9118  Reference: U
100k Digital Potentiometer, 1024 steps, TSSOP-14; ki_fp_filters: TSSOP*4.4x5mm*P0.65mm*; Footprint: Package_SO:TSSOP-14_4.4x5mm_P0.65mm; Datasheet: http://www.intersil.com/content/dam/Intersil/documents/x911/x9118.pdf; Description_: 100k Digital Potentiometer, 1024 steps, TSSOP-14; ki_keywords: digital potentiometer
pins: 1 V+, 3 A0, 4 SCL, 5 ~{{WP}}, 6 SDA, 7 VSS, 8 V-, 9 A1, 11 RW0, 12 RH0, 13 RL0, 14 VCC

## X9250
designator *  value X9250  Reference: U
Quad 100k Digital Potentiometer, 256 steps, TSSOP-24/SOIC-24; ki_keywords: potentiometer resistor variable digital; ki_fp_filters: SOIC*7.5x15.4mm*P1.27mm* TSSOP*4.4x7.8mm*P0.65mm*; Datasheet: https://www.intersil.com/content/dam/Intersil/documents/x925/x9250.pdf; Description_: Quad 100k Digital Potentiometer, 256 steps, TSSOP-24/SOIC-24
pins: 1 SOUT, 2 A0, 3 RW3, 4 RH3, 5 RL3, 6 V+, 7 VCC, 8 RL0, 9 RH0, 10 RW0, 11 ~{{CS}}, 12 ~{{WP}}, 13 SIN, 14 A1, 15 RL1, 16 RH1, 17 RW1, 18 VSS, 19 V-, 20 RW2, 21 RH2, 22 RL2, 23 SCL, 24 ~{{HOLD}}

## X9258
designator *  value X9258  Reference: U
Quad 50k Digital Potentiometer, 256 steps, TSSOP-24/SOIC-24; ki_keywords: potentiometer resistor variable digital; ki_fp_filters: SOIC*7.5x15.4mm*P1.27mm* TSSOP*4.4x7.8mm*P0.65mm*; Datasheet: http://www.intersil.com/content/dam/intersil/documents/x925/x9258.pdf; Description_: Quad 50k Digital Potentiometer, 256 steps, TSSOP-24/SOIC-24
pins: 2 A0, 3 RW3, 4 RH3, 5 RL3, 6 V+, 7 VCC, 8 RL0, 9 RH0, 10 RW0, 11 A2, 12 ~{{WP}}, 13 SDA, 14 A1, 15 RL1, 16 RH1, 17 RW1, 18 VSS, 19 V-, 20 RW2, 21 RH2, 22 RL2, 23 SCL, 24 A3